# Altium footprint library Polarimetro v2.1.PcbLib: 40 footprints (part 1 of 3)
Each footprint in its own frame and in the unit in brackets; x right, y up, seen from the top. Pads: shape width x height; smd on the part's side, far side on the other; paste and mask are expansions set on the pad; w line width, h text height; cw(c..) or ccw(c..) is an arc to the next point about the centre after c.
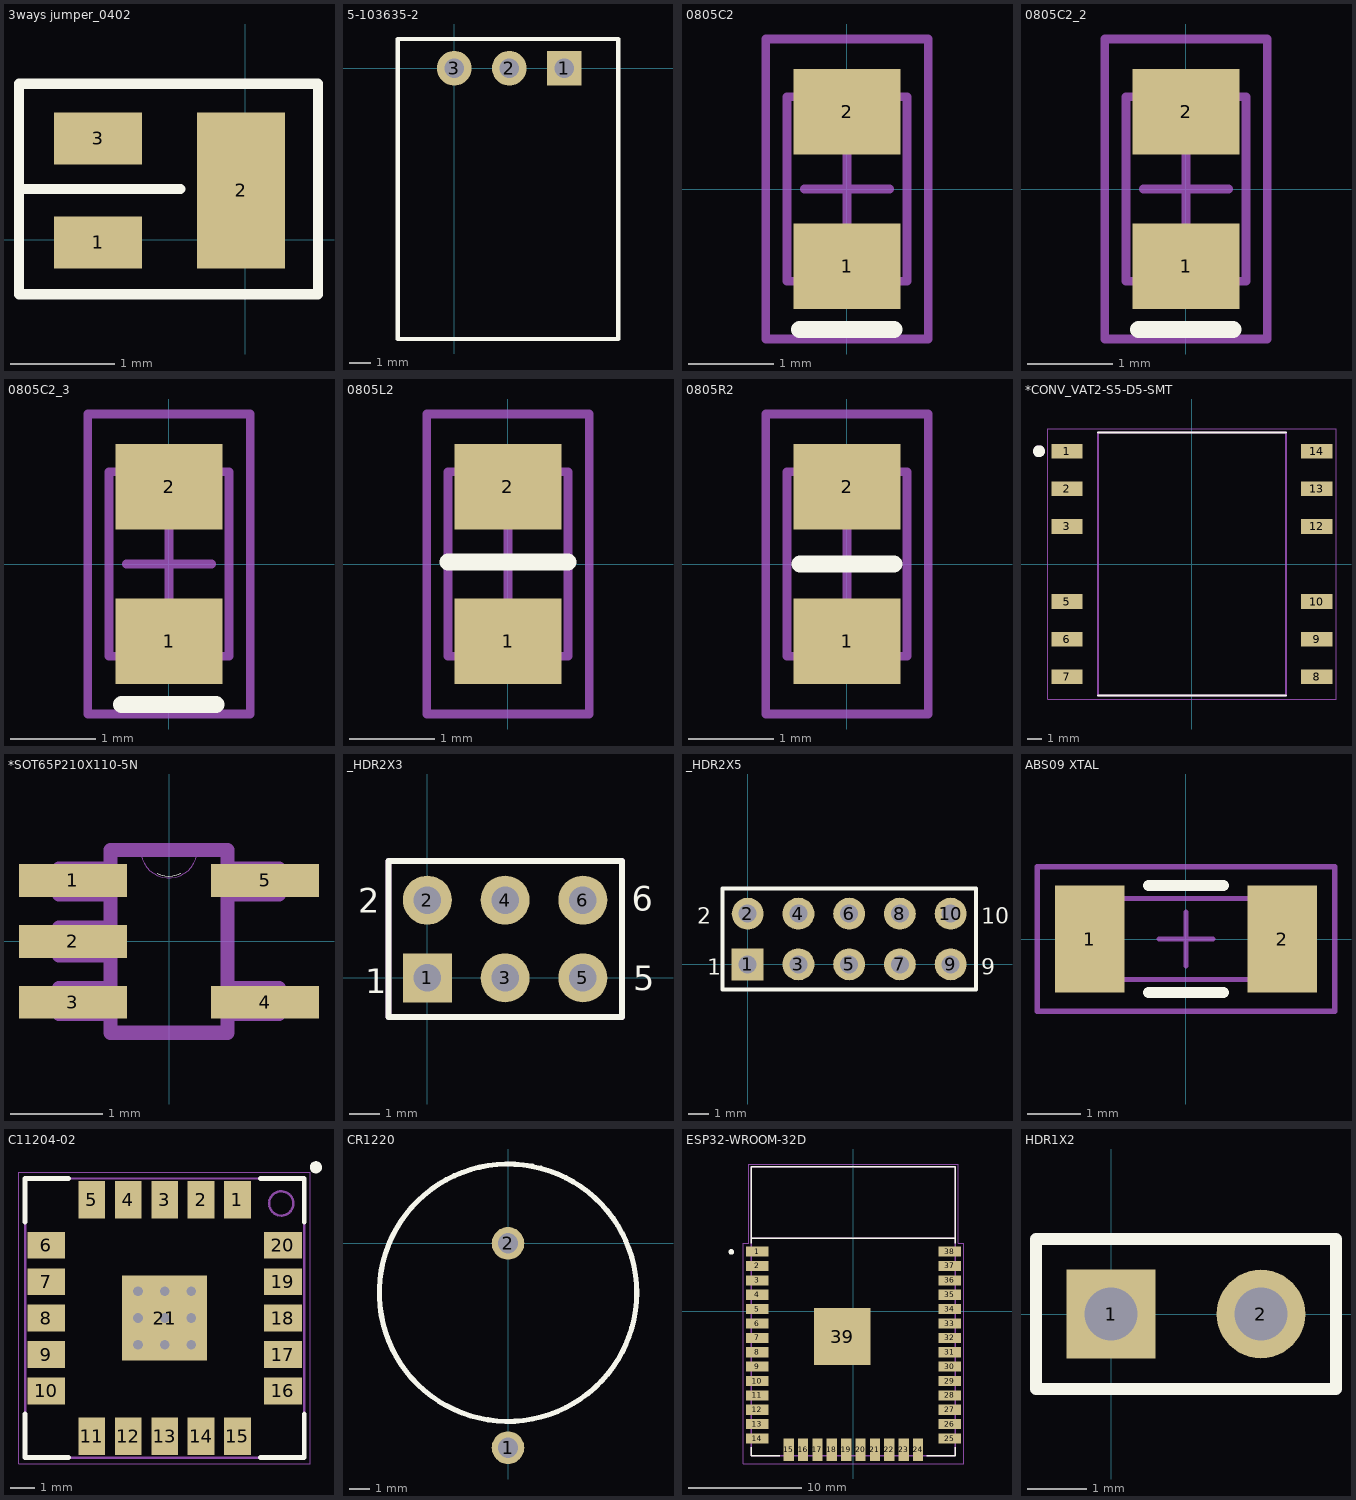
[diagram p0: the footprints below, top view; thin cyan lines are the x and y axes]

## 3ways jumper_0402 [mm]
pads (3):
  rect 0.85x0.5 smd: 1(-1.415,-0.025) 3(-1.415,0.975)
  rect 0.85x1.5 smd: 2(-0.04,0.475)
Top Overlay:
  lines w0.1: -2.175,0.487 -0.625,0.487 ; -2.175,-0.525 0.7,-0.525 0.7,1.5 -2.175,1.5 -2.175,-0.525

## 5-103635-2 [mm]
pads (3):
  rect 1.6x1.6 hole 0.9: 1(5.08,0)
  round 1.6 hole 0.9: 2(2.54,0) 3(0,0)
Top Overlay:
  lines w0.2: -2.6,-12.49 -2.6,1.35 7.56,1.35 7.56,-12.49 -2.6,-12.49
3D body "c-5-103635-2-s-3d.stp": height 6.6, standoff -3.68, extent -2.6,-12.524 7.56,1.064

## 0805C2 [mm]
pads (2):
  rect 1.25x1 smd: 1(0,-0.9) 2(0,0.9)
Top Overlay:
  lines w0.2: -0.55,-1.64 0.546,-1.64
Mechanical 13:
  lines w0.1: -0.7,-1.075 -0.7,1.075 0.7,1.075 0.7,-1.075 -0.7,-1.075
Mechanical 15:
  lines w0.1: -0.5,0 0.5,0 ; 0,-0.5 0,0.5 ; -0.95,-1.75 -0.95,1.75 0.95,1.75 0.95,-1.75 -0.95,-1.75
3D body "0805.step": height 0.43, standoff -0.03, extent -0.632,-0.941 0.628,1.059

## 0805C2_2 [mm]
pads (2):
  rect 1.25x1 smd: 1(0,-0.9) 2(0,0.9)
Top Overlay:
  lines w0.2: -0.55,-1.64 0.546,-1.64
Mechanical 13:
  lines w0.1: -0.7,-1.075 0.7,-1.075 0.7,1.075 -0.7,1.075 -0.7,-1.075
Mechanical 15:
  lines w0.1: -0.5,0 0.5,0 ; 0,-0.5 0,0.5 ; -0.95,-1.75 0.95,-1.75 0.95,1.75 -0.95,1.75 -0.95,-1.75
3D body "0805.step": height 0.43, standoff -0.03, extent -0.632,-0.941 0.628,1.059

## 0805C2_3 [mm]
pads (2):
  rect 1.25x1 smd: 1(0,-0.9) 2(0,0.9)
Top Overlay:
  lines w0.2: -0.55,-1.64 0.546,-1.64
Mechanical 13:
  lines w0.1: -0.7,-1.075 0.7,-1.075 0.7,1.075 -0.7,1.075 -0.7,-1.075
Mechanical 15:
  lines w0.1: -0.5,0 0.5,0 ; 0,-0.5 0,0.5 ; -0.95,-1.75 0.95,-1.75 0.95,1.75 -0.95,1.75 -0.95,-1.75
3D body "0805.step": height 0.43, standoff -0.03, extent -0.632,-0.941 0.628,1.059

## 0805L2 [mm]
pads (2):
  rect 1.25x1 smd: 1(0,-0.9) 2(0,0.9)
Top Overlay:
  lines w0.2: -0.699,0.023 0.701,0.023
Mechanical 13:
  lines w0.1: -0.7,-1.075 -0.7,1.075 0.7,1.075 0.7,-1.075 -0.7,-1.075
Mechanical 15:
  lines w0.1: -0.5,0 0.5,0 ; 0,-0.5 0,0.5 ; -0.95,-1.75 -0.95,1.75 0.95,1.75 0.95,-1.75 -0.95,-1.75
3D body "0805L.step": height 0.87, standoff -0.08, extent -0.606,-0.981 0.594,1.019

## 0805R2 [mm]
pads (2):
  rect 1.25x1 smd: 1(0,-0.9) 2(0,0.9)
Top Overlay:
  lines w0.2: -0.549,0.001 0.548,0.001
Mechanical 13:
  lines w0.1: -0.7,-1.075 -0.7,1.075 0.7,1.075 0.7,-1.075 -0.7,-1.075
Mechanical 15:
  lines w0.1: -0.5,0 0.5,0 ; 0,-0.5 0,0.5 ; -0.95,-1.75 -0.95,1.75 0.95,1.75 0.95,-1.75 -0.95,-1.75
3D body "0805R.step": height 0.38, standoff -0.07, extent -0.633,-1.025 0.617,0.975

## *CONV_VAT2-S5-D5-SMT [mm]
pads (12):
  rect 2.1x1 smd: 1(-8.44,7.62) 2(-8.44,5.08) 3(-8.44,2.54) 5(-8.44,-2.54) 6(-8.44,-5.08) 7(-8.44,-7.62) 8(8.44,-7.62) 9(8.44,-5.08) 10(8.44,-2.54) 12(8.44,2.54) 13(8.44,5.08) 14(8.44,7.62)
Top Overlay:
  circle w0.4: c-10.33,7.62 r0.2
  lines w0.127: -6.35,-8.89 6.35,-8.89 ; -6.35,8.89 6.35,8.89
Mechanical 4:
  circle w0.4: c-10.33,7.62 r0.2
  circle w0.4: c-10.33,7.62 r0.2
  lines w0.127: -6.35,-8.89 6.35,-8.89 ; -6.35,-8.89 -6.35,8.89 ; -6.35,-8.89 6.35,-8.89 ; -6.35,-8.89 -6.35,8.89 ; -6.35,8.89 6.35,8.89 ; -6.35,8.89 6.35,8.89 ; 6.35,-8.89 6.35,8.89 ; 6.35,-8.89 6.35,8.89
Mechanical 16:
  lines w0.05: -9.74,-9.14 9.74,-9.14 9.74,9.14 -9.74,9.14 -9.74,-9.14

## *SOT65P210X110-5N [mil]
pads (5):
  rect 46x14 smd: 1(-41,26) 2(-41,0) 3(-41,-26) 4(41,-26) 5(41,26)
Top Overlay:
  lines w0: -5.09,29.04 ccw(c0,39.03) 4.91,28.96
Mechanical 4:
  lines w0: -12,39 ccw(c0,39) 12,39 cw(c0,39) -12,39
  lines w6: -47,-31 -47,-20 ; -47,-31 -25,-31 ; -47,-31 -47,-20 ; -47,-31 -25,-31 ; -47,-20 -25,-20 ; -47,-20 -25,-20 ; -47,-6 -47,6 ; -47,-6 -25,-6 ; -47,-6 -47,6 ; -47,-6 -25,-6 ; -47,6 -25,6 ; -47,6 -25,6 ; -47,20 -47,31 ; -47,20 -25,20 ; -47,20 -47,31 ; -47,20 -25,20 ; -47,31 -25,31 ; -47,31 -25,31 ; -25,-39 25,-39 ; -25,-39 -25,-31 ; -25,-39 25,-39 ; -25,-39 -25,-31 ; -25,-31 -25,-20 ; -25,-31 -25,-20 ; -25,-20 -25,-6 ; -25,-20 -25,-6 ; -25,-6 -25,6 ; -25,-6 -25,6 ; -25,6 -25,20 ; -25,6 -25,20 ; -25,20 -25,31 ; -25,20 -25,31 ; -25,31 -25,39 ; -25,31 -25,39 ; -25,39 -12,39 ; -25,39 -12,39 ; -12,39 12,39 ; -12,39 12,39 ; 12,39 25,39 ; 12,39 25,39 ; 25,-39 25,-31 ; 25,-39 25,-31 ; 25,-31 25,-20 ; 25,-31 47,-31 ; 25,-31 25,-20 ; 25,-31 47,-31 ; 25,-20 25,20 ; 25,-20 47,-20 ; 25,-20 25,20 ; 25,-20 47,-20 ; 25,20 25,31 ; 25,20 47,20 ; 25,20 25,31 ; 25,20 47,20 ; 25,31 25,39 ; 25,31 47,31 ; 25,31 25,39 ; 25,31 47,31 ; 47,-31 47,-20 ; 47,-31 47,-20 ; 47,20 47,31 ; 47,20 47,31

## _HDR2X3 [mm]
pads (6):
  rect 1.6x1.6 hole 0.9: 1(0,0)
  round 1.6 hole 0.9: 2(0,2.54) 3(2.54,0) 4(2.54,2.54) 5(5.08,0) 6(5.08,2.54)
Top Overlay:
  lines w0.2: 1.482,-1.27 6.35,-1.27 ; 6.35,-1.27 -1.27,-1.27 -1.27,3.81 6.35,3.81 6.35,-1.27
  text "1" at -2.032,-0.508 h0.8
  text "2" at -2.261,2.134 h0.8
  text "5" at 6.731,-0.406 h0.8
  text "6" at 6.68,2.184 h0.8
Mechanical 29:
  lines w0.2: 1.482,-1.27 6.35,-1.27 ; 6.35,-1.27 6.35,3.81 -1.27,3.81 -1.27,-1.27 6.35,-1.27
  text "'.Designator'" at -0.098,1.148 h0.5
  text "6" at 6.604,2.032 h0.8
  text "5" at 6.604,-0.508 h0.8
  text "2" at -2.54,2.032 h0.8
  text "1" at -2.032,-0.508 h0.8
3D body "_HDR2x3.STEP": height 10.1, standoff -1.5, extent -1.27,-1.27 6.35,3.81

## _HDR2X5 [mm]
pads (10):
  rect 1.6x1.6 hole 0.9: 1(0,0)
  round 1.6 hole 0.9: 2(0,2.54) 3(2.54,0) 4(2.54,2.54) 5(5.08,0) 6(5.08,2.54) 7(7.62,0) 8(7.62,2.54) 9(10.16,0) 10(10.16,2.54)
Top Overlay:
  lines w0.2: -1.27,-1.27 11.43,-1.27 11.43,3.81 -1.27,3.81 -1.27,-1.27
  text "10" at 11.684,2.032 h0.8
  text "9" at 11.684,-0.508 h0.8
  text "1" at -2.032,-0.508 h0.8
  text "2" at -2.54,2.032 h0.8
3D body "HDR2x5.step": height 10.1, standoff -1.5, extent -1.3,-1.25 11.4,3.83

## ABS09 XTAL [mm]
pads (2):
  rect 1.3x2 smd: 1(-1.8,0) 2(1.8,0)
Top Overlay:
  lines w0.2: -0.7,-1 0.7,-1 ; -0.7,1 0.7,1
Mechanical 13:
  lines w0.1: -2.055,-0.755 -2.055,0.755 2.055,0.755 2.055,-0.755 -2.055,-0.755
Mechanical 15:
  lines w0.1: -0.5,0 0.5,0 ; 0,-0.5 0,0.5 ; -2.775,-1.35 -2.775,1.35 2.775,1.35 2.775,-1.35 -2.775,-1.35
3D body "ABS09.STEP": height 0.91, standoff 0, extent -1.933,-0.762 2.187,0.758

## C11204-02 [mm]
pads (21):
  rect 1.1x1.55 smd: 1(-36,43.875) 2(-37.5,43.875) 3(-39,43.875) 4(-40.5,43.875) 5(-42,43.875) 11(-42,34.125) 12(-40.5,34.125) 13(-39,34.125) 14(-37.5,34.125) 15(-36,34.125)
  rect 1.55x1.1 smd: 6(-43.875,42) 7(-43.875,40.5) 8(-43.875,39) 9(-43.875,37.5) 10(-43.875,36) 16(-34.125,36) 17(-34.125,37.5) 18(-34.125,39) 19(-34.125,40.5) 20(-34.125,42)
  rect 3.5x3.5 smd: 21(-39,39)
via -37.9,37.9 diameter 0.6 hole 0.4
via -39,37.9 diameter 0.6 hole 0.4
via -40.1,37.9 diameter 0.6 hole 0.4
via -37.9,39 diameter 0.6 hole 0.4
via -39,39 diameter 0.6 hole 0.4
via -40.1,39 diameter 0.6 hole 0.4
via -37.9,40.1 diameter 0.6 hole 0.4
via -39,40.1 diameter 0.6 hole 0.4
via -40.1,40.1 diameter 0.6 hole 0.4
Top Overlay:
  circle w0.25: c-32.766,45.212 r0.125
  lines w0.2: -44.75,35.05 -44.75,33.25 -42.95,33.25 ; -44.75,42.95 -44.75,44.75 -42.95,44.75 ; -35.05,33.25 -33.25,33.25 -33.25,35.05 ; -35.05,44.75 -33.25,44.75 -33.25,42.95
Mechanical 13:
  circle w0.1: c-34.198,43.723 r0.5
  lines w0.1: -44.75,33.25 -33.25,33.25 -33.25,44.75 -44.75,44.75 -44.75,33.25
Mechanical 15:
  lines w0.05: -45,33 -33,33 -33,45 -45,45 -45,33
  lines w0.1: -39.5,39 -38.5,39 ; -39,38.5 -39,39.5
3D body: height 2, standoff 0, extent -44.75,33.25 -33.25,44.75

## CR1220 [mm]
pads (2):
  round 1.6 hole 1: 1(0,-10) 2(0,0)
Top Overlay:
  circle w0.254: c0,-2.413 r6.3
3D body "CR1220.STEP": height 4.5, standoff -1.9, extent -6.223,-10.152 6.277,3.548

## ESP32-WROOM-32D [mm]
pads (39):
  rect 2x0.9 smd: 1(-8.5,5.26) 2(-8.5,3.99) 3(-8.5,2.72) 4(-8.5,1.45) 5(-8.5,0.18) 6(-8.5,-1.09) 7(-8.5,-2.36) 8(-8.5,-3.63) 9(-8.5,-4.9) 10(-8.5,-6.17) 11(-8.5,-7.44) 12(-8.5,-8.71) 13(-8.5,-9.98) 14(-8.5,-11.25) 25(8.5,-11.25) 26(8.5,-9.98) 27(8.5,-8.71) 28(8.5,-7.44) 29(8.5,-6.17) 30(8.5,-4.9) 31(8.5,-3.63) 32(8.5,-2.36) 33(8.5,-1.09) 34(8.5,0.18) 35(8.5,1.45) 36(8.5,2.72) 37(8.5,3.99) 38(8.5,5.26)
  rect 0.9x2 smd: 15(-5.715,-12.25) 16(-4.445,-12.25) 17(-3.175,-12.25) 18(-1.905,-12.25) 19(-0.635,-12.25) 20(0.635,-12.25) 21(1.905,-12.25) 22(3.175,-12.25) 23(4.445,-12.25) 24(5.715,-12.25)
  rect 5x5 smd: 39(-1,-2.24)
Top Overlay:
  circle w0.3: c-10.777,5.238 r0.1
  lines w0.127: -9,-12 -9,-12.75 -6.5,-12.75 ; -9,6 -9,12.75 9,12.75 9,6 ; -8.96,6.45 8.96,6.45 ; 6.5,-12.75 9,-12.75 9,-12
Top Paste:
  region: -2.584,-0.659 0.581,-0.659 0.581,-3.825 -2.584,-3.825
Mechanical 4:
  circle w0.3: c-8.277,5.238 r0.1
  circle w0.3: c-8.277,5.238 r0.1
  lines w0.127: -9,-12.75 -9,12.75 ; -9,-12.75 9,-12.75 ; -9,-12.75 -9,12.75 ; -9,-12.75 9,-12.75 ; -9,12.75 9,12.75 ; -9,12.75 9,12.75 ; 9,-12.75 9,12.75 ; 9,-12.75 9,12.75 ; -8.96,6.45 8.96,6.45 -8.96,6.45
  text "ANTENNA" at -5.725,8.401 h1.88
  text "ANTENNA" at -5.725,8.401 h1.88
Mechanical 16:
  lines w0.05: -9.75,-13.5 -9.75,6 -9.25,6 -9.25,13 9.25,13 9.25,6 9.75,6 9.75,-13.5 -9.75,-13.5
3D body "ESP32-WROOM-32D--3DModel-STEP-56544.STEP": height 3.25, standoff 0, extent -9,-12.827 9,12.673

## HDR1X2 [mm]
pads (2):
  rect 1.5x1.5 hole 0.9: 1(0,0)
  round 1.5 hole 0.9: 2(2.54,0)
Top Overlay:
  lines w0.2: -1.27,-1.27 3.81,-1.27 3.81,1.27 -1.27,1.27 -1.27,-1.27